# Altium schematic symbol library 直流无刷电机.SCHLIB: 7 symbols
Pins are listed as number, name and electrical type; pins without a type are passive.

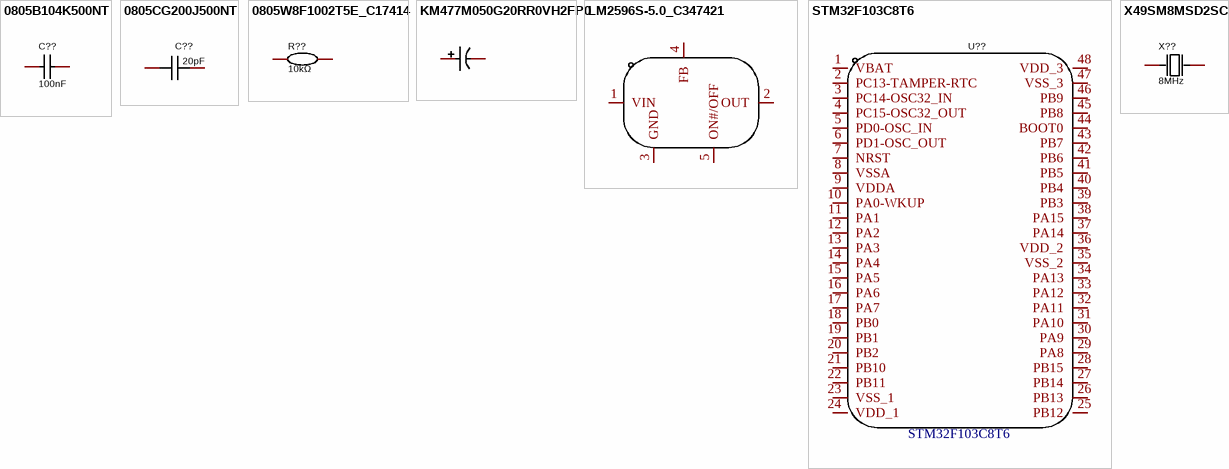
[diagram p0: symbols 0805B104K500NT to X49SM8MSD2SC]

## 0805B104K500NT
designator C??  value 100nF  (hidden comment: 0805B104K500NT)
Manufacturer: FH(风华); Add into BOM: yes; Tolerance: ±10%; Voltage Rated: 50V; Temperature Coefficient: X7R; Name: 100nF; Symbol: 0805B104K500NT; Device: 0805B104K500NT; LCSC Part Name: 100nF ±10% 50V; Supplier Part: C38141; Manufacturer Part: 0805B104K500NT; Supplier Footprint: 0805; JLCPCB Part Class: Extended Part; Datasheet: https://atta.szlcsc.com/upload/public/pdf/source/20170923/C38141_1506149447419988747.pdf; Supplier: LCSC; Convert to PCB: yes
footprint C0805
3D model C0805_L2.0-W1.3-H1.3
pins: 1, 2

## 0805CG200J500NT
designator C??  value 20pF  (hidden comment: 0805CG200J500NT)
Manufacturer: FH(风华); Add into BOM: yes; Temperature Coefficient: C0G; Tolerance: ±5%; Voltage Rated: 50V; Name: 20pF; Symbol: 0805CG200J500NT; Device: 0805CG200J500NT; LCSC Part Name: 20pF(200) ±5% 50V; Supplier Part: C94472; Manufacturer Part: 0805CG200J500NT; Supplier Footprint: 0805; JLCPCB Part Class: Extended Part; Datasheet: https://atta.szlcsc.com/upload/public/pdf/source/20170923/C94472_1506149578159988997.pdf; Supplier: LCSC; Convert to PCB: yes
footprint C0805
3D model C0805_L2.0-W1.3-H1.3
pins: 1, 2

## 0805W8F1002T5E_C17414
designator R??  value 10kΩ  (hidden comment: 0805W8F1002T5E_C17414)
Manufacturer: UNI-ROYAL(厚声); Add into BOM: yes; Tolerance: ±1%; Power(Watts): 125mW; Temperature Coefficient: ±100ppm/℃; Overload Voltage (Max): 150V; Name: 10kΩ; Symbol: 0805W8F1002T5E; Device: 0805W8F1002T5E_C17414; LCSC Part Name: 10kΩ ±1% 125mW; Supplier Part: C17414; Manufacturer Part: 0805W8F1002T5E; Supplier Footprint: 0805; JLCPCB Part Class: Basic Part; Datasheet: https://atta.szlcsc.com/upload/public/pdf/source/20200306/C422600_1E6D84923E4A46A82E41ADD87F860B5C.pdf; Supplier: LCSC; Convert to PCB: yes; Type: 厚膜电阻; Operating Temperature Range: -55℃~+155℃
footprint R0805
3D model R0805_L2.0-W1.3-H0.6
pins: 1, 2

## KM477M050G20RR0VH2FP0
designator C??  (value not drawn)
Manufacturer: CX(承兴); Name: 470uF; Symbol: 470UF 50V; Add into BOM: yes; Value: 470uF; Tolerance: ±20%; Rated Voltage: 50V; φD: 10mm; L: 20mm; Lifetime @ Temp: 2000hrs@105℃; Device: KM477M050G20RR0VH2FP0; LCSC Part Name: 470uF ±20% 50V; Supplier Part: C34642; Manufacturer Part: KM477M050G20RR0VH2FP0; Supplier Footprint: 直插,D10xL20mm; JLCPCB Part Class: Extended Part; Datasheet: https://atta.szlcsc.com/upload/public/pdf/source/20211027/06D6BA3719C264B639DC286D935D03EA.pdf; Supplier: LCSC; Convert to PCB: yes; Lead Spacing: 5mm
footprint CAP-TH_BD10.0-P5.00-D1.0-FD
3D model CAP-TH_D10.0-H16.0-P5.00
pins: 1, 2

## LM2596S-5.0_C347421
designator U??  (value not drawn)
Manufacturer: UMW(广东友台半导体); Add into BOM: yes; Name: LM2596S-5.0; Symbol: LM2596S-5.0; Device: LM2596S-5.0_C347421; LCSC Part Name: DC-DC芯片; Supplier Part: C347421; Manufacturer Part: LM2596S-5.0; Supplier Footprint: TO-263; JLCPCB Part Class: Extended Part; Datasheet: https://atta.szlcsc.com/upload/public/pdf/source/20211011/C7416AEF3194BD283261B8F2553C4145.pdf; Supplier: LCSC; Convert to PCB: yes
footprint TO-263-5_L10.2-W8.9-P1.70-BR
3D model TO-263-5-5P_L10.2-W8.7-H4.5-LS14.4-P1.70
pins: 1 VIN, 2 OUT, 3 GND, 4 FB, 5 ON#/OFF

## STM32F103C8T6
designator U??
Manufacturer: ST(意法半导体); Add into BOM: yes; CPU Core: ARM Cortex-M3; CPU Maximum Speed: 72MHz; Operating Voltage Range: 2V~3.6V; Program Storage Size: 64KB; Program Memory Type: FLASH; RAM Size: 20KB; GPIO Ports Number: 37; ADC (Bit): 12bit; Peripheral/Function: 看门狗；DMA；看门狗；片载温度传感器; Internal Oscillator: 有; Name: STM32F103C8T6; Symbol: STM32F103C8T6; Device: STM32F103C8T6; LCSC Part Name: ARM Cortex-M3 72MHz MSL=3; Supplier Part: C8734; Manufacturer Part: STM32F103C8T6; Supplier Footprint: LQFP-48(7x7); JLCPCB Part Class: Basic Part; Datasheet: https://atta.szlcsc.com/upload/public/pdf/source/20220812/8363ACEC51AD55ECEB84799464F7CB85.pdf; Supplier: LCSC; Convert to PCB: yes; EEPROM: 64KB; DAC (Bit): -; PWM (Bit): -; Universal Serial Bus: -; Internal Comparator: -; communication protocol: -; Watchdog: -; Real-Time Clock: -; Infrared Data Association: -; Low-Voltage Detect: -; CCP Capture/Compare: -; Secure Digital Input and Output: -; Direct Memory Access: -; Operating Temperature Range: -40℃~+85℃
footprint LQFP-48_L7.0-W7.0-P0.50-LS9.0-BL
3D model LQFP-48_L7.0-W7.0-H1.4-LS9.0-P0.50
pins: 1 VBAT, 2 PC13-TAMPER-RTC, 3 PC14-OSC32_IN, 4 PC15-OSC32_OUT, 5 PD0-OSC_IN, 6 PD1-OSC_OUT, 7 NRST, 8 VSSA, 9 VDDA, 10 PA0-WKUP, 11 PA1, 12 PA2, 13 PA3, 14 PA4, 15 PA5, 16 PA6, 17 PA7, 18 PB0, 19 PB1, 20 PB2, 21 PB10, 22 PB11, 23 VSS_1, 24 VDD_1, 25 PB12, 26 PB13, 27 PB14, 28 PB15, 29 PA8, 30 PA9, 31 PA10, 32 PA11, 33 PA12, 34 PA13, 35 VSS_2, 36 VDD_2, 37 PA14, 38 PA15, 39 PB3, 40 PB4, 41 PB5, 42 PB6, 43 PB7, 44 BOOT0, 45 PB8, 46 PB9, 47 VSS_3, 48 VDD_3

## X49SM8MSD2SC
designator X??  value 8MHz  (hidden comment: X49SM8MSD2SC)
Manufacturer: YXC(扬兴晶振); Add into BOM: yes; Crystal Type: 49SMD; Frequency Tolerance: ±20ppm; Frequency Stability: ±30ppm; Load Capacitance: 20pF; Name: 8MHz; Symbol: X49SM8MSD2SC; Device: X49SM8MSD2SC; LCSC Part Name: HC-49SMD 8MHz ±20ppm 20pF; Supplier Part: C12674; Manufacturer Part: X49SM8MSD2SC; Supplier Footprint: HC-49S-SMD-2P; JLCPCB Part Class: Basic Part; Datasheet: https://atta.szlcsc.com/upload/public/pdf/source/20210329/C106809_0E91E60850A780B284B63D653DC40EA4.pdf; Supplier: LCSC; Convert to PCB: yes; Operating Temperature: -20℃~+70℃
footprint CRYSTAL-SMD_L11.5-W4.8-LS12.7
3D model HC-49S_L11.4-W1.8-H3.0-LS12.7
pins: 1 OSC1, 2 OSC2